# Altium schematic symbol library XT30U-M.Schlib: 1 symbol
Pins are listed as number, name and electrical type; pins without a type are passive.

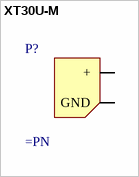
[diagram p0: symbol XT30U-M]

## XT30U-M
designator P?
pins: 1 +, 2 GND